# Altium schematic symbol library Semiconductors.SchLib: 50 symbols
Pins are listed as number, name and electrical type; pins without a type are passive.

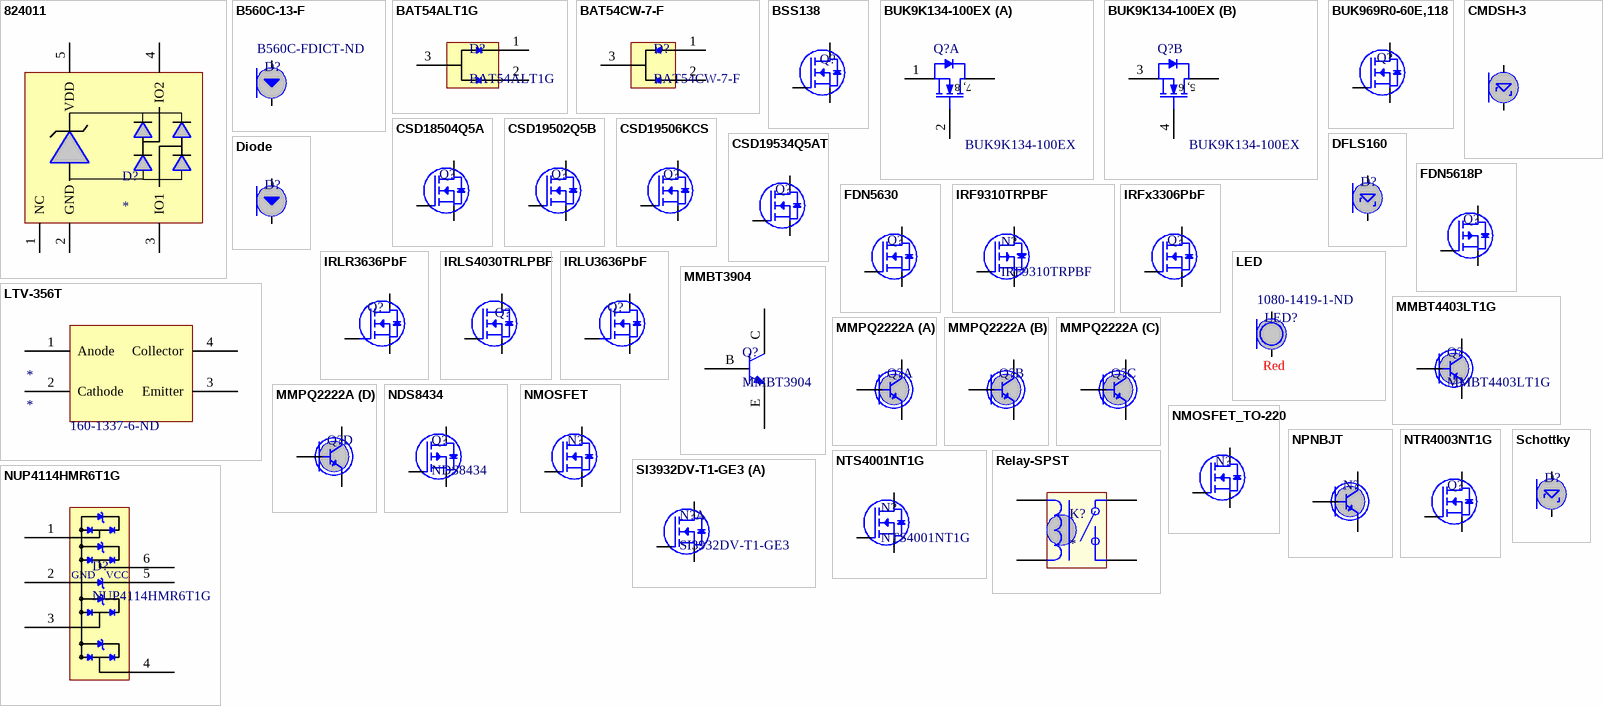
[diagram p0: symbols 824011 to SI3932DV-T1-GE3]

## 824011
designator D?
USB ESD Protection Diodes
footprint SOT95P280X116-5N (SOT23, 5-Leads, Body 2.90x2.80mm, Pitch 0.95mm, IPC Medium Density)
pins: 1 NC, 2 GND, 3 IO1, 4 IO2, 5 VDD

## B560C-13-F
designator D?  Supplier Part Number 1: B560C-FDICT-ND  (hidden comment: B560C-13-F)
DIODE SCHOTTKY 60V 5A SMC; Manufacturer 1: Diodes Incorporated; Supplier 1: Digi-Key; Manufacturer Part Number 1: B560C-13-F
footprint DO-214AB (Molded Diode, 2-Leads, Body 6.85x5.90mm, IPC Medium Density)
pins: A, C

## BAT54ALT1G
designator D?
DIODE ARRAY SCHOTTKY 30V SOT23-3; Manufacturer 1: ON Semiconductor; Manufacturer Part Number 1: BAT54ALT1G; Supplier 1: Digi-Key; Supplier Part Number 1: BAT54ALT1GOSCT-ND
footprint SOT-323 (SOT23, 3-Leads, Body 2.00x2.20mm, Pitch 0.65mm, IPC Medium Density)
pins: 1, 2, 3

## BAT54CW-7-F
designator D?
DIODE ARRAY SCHOTTKY 30V SOT323; Manufacturer 1: Diodes Incorporated; Manufacturer Part Number 1: BAT54CW-7-F; Supplier 1: Digi-Key; Supplier Part Number 1: BAT54CW-FDICT-ND
footprint SOT-323 (SOT23, 3-Leads, Body 2.00x2.20mm, Pitch 0.65mm, IPC Medium Density)
pins: 1, 2, 3

## BSS138
designator Q?  (value not drawn)
MOSFET N-CH 50V 220MA SOT-23; Supplier 1: Digi-Key; Supplier Part Number 1: BSS138CT-ND
footprint BSS138 (MOSFET N-CH 50V 220MA SOT-23)
pins: D, G, S

## BUK9K134-100EX
designator Q?
MOSFET DUAL N-CH 100V 8.5A SOT1205; Supplier 1: Digi-Key; Supplier Part Number 1: 568-11631-1-ND
footprint NXP_SOT1205 (TSOP, 8-Leads, Body 5.13x4.58mm, Pitch 1.27mm, Thermal Pad 2.00x2.00mm, IPC Medium Density)
part A pins: 1 S, 2 G, 7 D, 8 D
part B pins: 3 S, 4 G, 5 D, 6 D
part A text: 7, 8
part B text: 5, 6

## BUK969R0-60E,118
designator Q?  (value not drawn)
MOSFET N-CH 60V 75A D2PAK; Supplier 1: Digi-Key; Supplier Part Number 1: 568-9894-1-ND
pins: D, G, S

## CMDSH-3
designator D?, comment Schottky
DIODE SCHOTTKY 30V 100MA SOD323; Supplier 1: Digi-Key; Supplier Part Number 1: CMDSH-3 CT-ND
footprint SOD-323F (Molded Diode, 2-Leads, Body 1.70x1.25mm, IPC Medium Density)
pins: A, C

## CSD18504Q5A
designator Q?  (value not drawn)
MOSFET N-CH 40V 8SON; Manufacturer 1: Texas Instruments; Supplier 1: Digi-Key; Supplier Part Number 1: 296-30572-1-ND; Manufacturer Part Number 1: CSD18504Q5A
footprint CSD19502Q5B (PSON, 8-Leads, Body 5.00x6.00mm, Pitch 1.27mm, Thermal Pad 4.22x3.58mm, IPC Medium Density)
pins: D, G, S

## CSD19502Q5B
designator Q?  (value not drawn)
NEXFET Power MOSFET; Supplier 1: Digi-Key; Supplier Part Number 1: 296-37194-1-ND
footprint CSD19502Q5B (PSON, 8-Leads, Body 5.00x6.00mm, Pitch 1.27mm, Thermal Pad 4.22x3.58mm, IPC Medium Density)
pins: D, G, S

## CSD19506KCS
designator Q?  (value not drawn)
HEXFET Power MOSFET; Supplier 1: Digi-Key; Supplier Part Number 1: 296-37169-5-ND
footprint TO-220AB Heatsink (HEXFET Power MOSFET w/ Heat Sink)
footprint TO-220AB Heatsink Vertical
footprint TO-220AB Upside Down (High current FET installed like Devin's motor controllers)
footprint TO-220AB no heat sink (Vertically mounted FET without heatsink)
pins: D, G, S

## CSD19534Q5AT
designator Q?  (value not drawn)
MOSFET N-CH 100V 50 8SON; Manufacturer 1: Texas Instruments; Supplier 1: Digi-Key; Supplier Part Number 1: 296-37838-1-ND; Manufacturer Part Number 1: CSD19534Q5AT
footprint CSD19502Q5B (PSON, 8-Leads, Body 5.00x6.00mm, Pitch 1.27mm, Thermal Pad 4.22x3.58mm, IPC Medium Density)
pins: D, G, S

## DFLS160
designator D?  (value not drawn)
1.0A Surface Mount Schottky Barrier Rectifier; Supplier 1: Digi-Key; Supplier Part Number 1: DFLS160DICT-ND
footprint POWERDI123 (Diodes INC Power Diode)
footprint RSX501L-20TE25 (DIODE SCHOTTKY 20V 5A PMDS)
pins: A, C

## Diode
designator D?  (value not drawn)
Standard Diode Template
footprint TEMD5510FX01 (PHOTODIODE PIN HI SPEED MINI SMD)
footprint SOD-323F (Molded Diode, 2-Leads, Body 1.70x1.25mm, IPC Medium Density)
footprint MBRS360SMB
pins: A, C

## FDN5618P
designator Q?  (value not drawn)
60V P-Channel Logic Level PowerTrench MOSFET; Supplier 1: Digi-Key; Supplier Part Number 1: FDN5618PCT-ND
footprint PowerSOT-3 (SOT23, 3-Leads, Body 2.92x2.47mm, Pitch 0.95mm, IPC Medium Density)
pins: D, G, S

## FDN5630
designator Q?  (value not drawn)
60V N-Channel PowerTrench MOSFET; Supplier 1: Digi-Key; Supplier Part Number 1: FDN5630CT-ND
footprint PowerSOT-3 (SOT23, 3-Leads, Body 2.92x2.47mm, Pitch 0.95mm, IPC Medium Density)
pins: D, G, S

## IRF9310TRPBF
designator N?
MOSFET P-CH 30V 20A 8-SOIC; Manufacturer 1: Infineon Technologies; Supplier 1: Digi-Key; Supplier Part Number 1: IRF9310TRPBFCT-ND; Manufacturer Part Number 1: IRF9310TRPBF
footprint SOIC-8-NO-EP (SOIC, 8-Leads, Body 4.90x3.90mm, Pitch 1.27mm, IPC Medium Density)
pins: 1,2,3 S, 4 G, 5,6,7,8 D

## IRFx3306PbF
designator Q?, comment IRFB3306PbF  (value not drawn)
HEXFET Power MOSFET; Heatsink: A10755-ND; Supplier 1: Digi-Key; Supplier Part Number 1: IRFB3306PBF-ND
footprint TO-220AB Heatsink (HEXFET Power MOSFET w/ Heat Sink)
footprint TO-220AB Heatsink Vertical
footprint TO-220AB Upside Down (High current FET installed like Devin's motor controllers)
footprint TO-220AB no heat sink (Vertically mounted FET without heatsink)
pins: D, G, S

## IRLR3636PbF
designator Q?  (value not drawn)
HEXFET Power MOSFET; Supplier 1: Digi-Key; Supplier Part Number 1: IRLR3636TRPBFCT-ND
footprint IRLR3636PbF (D-PAK, 3-Pads, Body 6.2x6.7mm (max), IPC Medium Density)
pins: D, G, S

## IRLS4030TRLPBF
designator Q?  (value not drawn)
MOSFET N-CH 100V 180A D2PAK; Supplier 1: Digi-Key; Supplier Part Number 1: IRLS4030TRLPBFCT-ND
footprint IRLS4030TRLPBF (MOSFET N-CH 100V 180A D2PAK)
footprint Si7308DN (MOSFET, Fast Switching, NChan, 60V, 6A, 59millohm)
pins: D, G, S

## IRLU3636PbF
designator Q?  (value not drawn)
HEXFET Power MOSFET; Supplier 1: Digi-Key; Supplier Part Number 1: IRLU3636PBF-ND
footprint IRLU3636PbF
pins: D, G, S

## LED
designator LED?  Color: Red  Supplier Part Number 1: 1080-1419-1-ND  (hidden comment: *)
Supplier 1: Digi-Key
footprint LED0603 (Chip LED, 2-Leads, Body 1.60x0.80mm, IPC Medium Density)
footprint LED1206
footprint LED0805 (Chip LED, 2-Leads, Body 2.00x1.25mm, IPC Medium Density)
pins: A, C

## LTV-356T
designator *  Supplier Part Number 1: 160-1337-6-ND
OPTOISOLATOR 3.75KV TRANS 4-SOP; Supplier 1: Digi-Key
footprint LTV-356T (OPTOISOLATOR 3.75KV TRANS 4-SOP)
pins: 1 Anode, 2 Cathode, 3 Emitter, 4 Collector

## MMBT3904
designator Q?
TRANS NPN 40V 0.2A SOT-23; Manufacturer 1: Fairchild Semiconductor; Supplier 1: Digi-Key; Supplier Part Number 1: MMBT3904FSCT-ND; Manufacturer Part Number 1: MMBT3904
footprint MMBT3904 (SOT23, 3-Leads, Body 2.92x2.40mm, Pitch 0.95mm, IPC Medium Density)
pins: B, C, E

## MMBT4403LT1G
designator Q?
TRANS PNP 40V 0.6A SOT23; Manufacturer 1: ON Semiconductor; Manufacturer Part Number 1: MMBT4403LT1G; Supplier 1: Digi-Key; Supplier Part Number 1: MMBT4403LT1GOSCT-ND
footprint BZX84C24LT1G (SOT23, 3-Leads, Body 2.92x2.37mm, Pitch 0.95mm, IPC Medium Density)
pins: A B, B E, C

## MMPQ2222A
designator Q?  (value not drawn)
Quad NPN General Purpose Amplifier; Supplier 1: Digi-Key; Supplier Part Number 1: MMPQ2222ACT-ND
footprint MMPQ2222A (SOIC, 16-Leads, Body 9.90x3.90mm, Pitch 1.27mm, IPC Medium Density)
part A pins: 1 C1, 15 B1, 16 E1
part B pins: 3 C2, 13 B2, 14 E2
part C pins: 5 C3, 11 B3, 12 E3
part D pins: 7 C4, 9 B4, 10 E4

## NDS8434
designator Q?
MOSFET P-CH 20V 6.5A 8-SOIC; Manufacturer 1: Fairchild Semiconductor; Manufacturer Part Number 1: NDS8434; Supplier 1: Digi-Key; Supplier Part Number 1: NDS8434CT-ND
footprint NDS8434 (MOSFET P-CH 20V 6.5A 8-SOIC)
pins: D, G, S

## NMOSFET
designator N?  (value not drawn)
NMOSFET Template; Supplier 1: Digi-Key; Supplier Part Number 1: 568-5818-1-ND
footprint SSM3K329R,LF (MOSFET N CH 30V 3.5A 2-3Z1A)
pins: 1 G, 2 S, 3 D

## NMOSFET_TO-220
designator N?  (value not drawn)
NMOSFET_TO-220-Template; Supplier 1: Digi-Key; Supplier Part Number 1: IRLB3813PBF-ND
footprint TO-220AB no heat sink (Vertically mounted FET without heatsink)
footprint TO-220AB Heatsink (HEXFET Power MOSFET w/ Heat Sink)
footprint TO-220AB Heatsink Vertical (Vertical Heatsink for better heat management)
footprint TO-220AB Upside Down (High current FET installed like Devin's motor controllers)
pins: D, G, S

## NPNBJT
designator N?  (value not drawn)
NPN Transistor Template; Supplier 1: Digi-Key; Supplier Part Number 1: 568-4866-1-ND
footprint BC846A,215 (TRANSISTOR NPN 100MA 65V SOT23)
footprint PZT3904 (SOT223, 4-Leads, Body 6.45x7.00mm (avg), Pitch 2.30mm, IPC Medium Density)
pins: B, C, E

## NTR4003NT1G
designator Q?  (value not drawn)
MOSFET N-CH 30V 500MA SOT-23; Manufacturer 1: ON Semiconductor; Supplier 1: Digi-Key; Supplier Part Number 1: NTR4003NT1GOSCT-ND; Manufacturer Part Number 1: NTR4003NT1G
footprint BZX84C24LT1G (SOT23, 3-Leads, Body 2.92x2.37mm, Pitch 0.95mm, IPC Medium Density)
pins: A G, B S, C D

## NTS4001NT1G
designator N?
MOSFET N-CH 30V 270MA SOT-323; Manufacturer 1: ON Semiconductor; Manufacturer Part Number 1: NTS4001NT1G; Supplier 1: Digi-Key; Supplier Part Number 1: NTS4001NT1GOSCT-ND
footprint SOT-323 (SOT23, 3-Leads, Body 2.00x2.20mm, Pitch 0.65mm, IPC Medium Density)
pins: 1 G, 2 S, 3 D

## NUP4114HMR6T1G
designator D?
TVS DIODE 5.5VWM 10VC 6TSOP; Manufacturer 1: ON Semiconductor; Manufacturer Part Number 1: NUP4114HMR6T1G; Supplier 1: Digi-Key; Supplier Part Number 1: NUP4114HMR6T1GOSCT-ND
footprint TSOP-6 (SOT23, 6-Leads, Body 3.00x2.75mm, Pitch 0.95mm, IPC Medium Density)
pins: 1 IN1, 2 GND, 3 IN3, 4 IN4, 5 VCC, 6 IN2

## Relay-SPST
designator K?
General Purpose Relay SPST-NO (1 Form A) 24VDC Coil Through Hole; Supplier Part Number 1: Z2254-ND; Supplier 1: Digi-Key
footprint G5LE-1A4 DC24 (RELAY GEN PURPOSE SPST 10A 24V)
pins: 1, 2, 3, 5

## Schottky
designator D?  (value not drawn)
Schottky Diode Template
footprint 1N5819HW-7-F (DIODE SCHOTTKY 40V 1A SOD123)
footprint SS110-TP (DIODE SCHOTTKY 100V 1A SMA)
pins: A, C

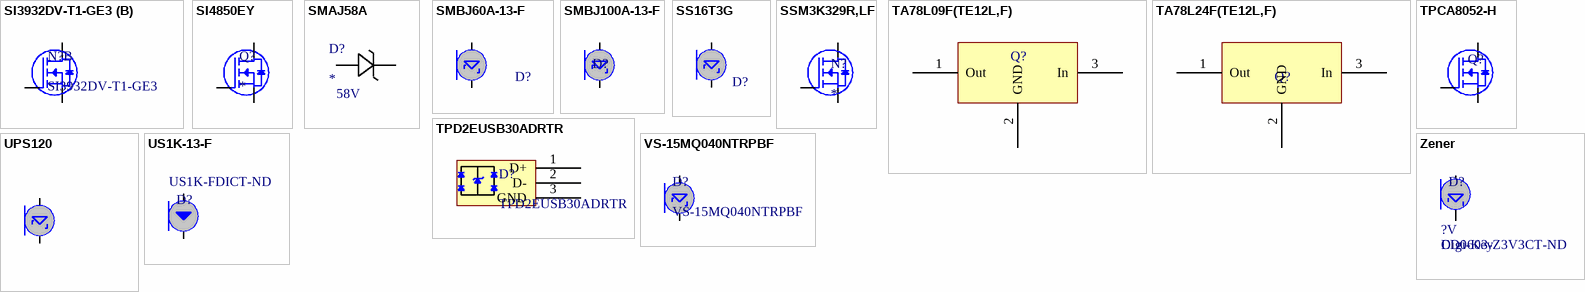
[diagram p1: symbols SI3932DV-T1-GE3 to Zener]

## SI3932DV-T1-GE3
designator N?
MOSFET 2N-CH 30V 3.7A 6-TSOP; Manufacturer 1: Vishay Siliconix; Manufacturer Part Number 1: SI3932DV-T1-GE3; Supplier 1: Digi-Key; Supplier Part Number 1: SI3932DV-T1-GE3CT-ND
footprint SOT23-6 (SOT23, 6-Leads, Body 3.03x2.84mm, Pitch 0.95mm, IPC Medium Density)
part A pins: 1 G, 5 S, 6 D
part B pins: 2 S, 3 G, 4 D

## SI4850EY
designator Q?
MOSFET N-CH 60V 6A 8-SOIC; Supplier 1: Digi-Key; Supplier Part Number 1: SI4850EY-T1-E3CT-ND
footprint SOIC-8-NO-EP (SOIC, 8-Leads, Body 4.90x3.90mm, Pitch 1.27mm, IPC Medium Density)
pins: 1 S, 2 S, 3 S, 4 G, 5 D, 6 D, 7 D, 8 D

## SMAJ58A
designator D?  Zener Voltage: 58V
TVS DIODE 58VWM 93.6VC SMA; Supplier 1: Digi-Key; Supplier Part Number 1: SMAJ58ALFCT-ND
footprint SMASeries
pins: A 2, C 1

## SMBJ60A-13-F
designator D?  (value not drawn)
TVS UNIDIRECT 600W 60V SMB; Supplier 1: Digi-Key; Supplier Part Number 1: SMBJ60A-FDIDKR-ND
footprint SMBJ60A-13-F (TVS UNIDIRECT 600W 60V SMB)
pins: A, C

## SMBJ100A-13-F
designator D?  (value not drawn)
TVS DIODE 100VWM 162VC SMB; Supplier 1: Digi-Key; Supplier Part Number 1: SMBJ100A-FDIDKR-ND
footprint SMBJ100A-13-F (TVS DIODE 100VWM 162VC SMB)
pins: A, C

## SS16T3G
designator D?  (value not drawn)
DIODE SCHOTTKY 60V 1A SMA; Supplier 1: Digi-Key; Supplier Part Number 1: SS16T3GOSDKR-ND
footprint SS16T3G (DIODE SCHOTTKY 60V 1A SMA)
footprint SS110-TP (DIODE SCHOTTKY 100V 1A SMA)
pins: A, C

## SSM3K329R,LF
designator N?
MOSFET N CH 30V 3.5A 2-3Z1A; Manufacturer 1: Toshiba Semiconductor and Storage; Manufacturer Part Number 1: SSM3K329R,LF; Supplier 1: Digi-Key; Supplier Part Number 1: SSM3K329RLFTR-ND
footprint SSM3K329R,LF (MOSFET N CH 30V 3.5A 2-3Z1A)
pins: 1 G, 2 S, 3 D

## TA78L09F(TE12L,F)
designator Q?  (value not drawn)
IC REG LDO 9V 0.15A PWMINI; Supplier 1: Digi-Key; Supplier Part Number 1: TA78L09F(TE12LF)DKR-ND
footprint TA78L09F(TE12L,F) (IC REG LDO 9V 0.15A PWMINI)
pins: 1 Out, 2 GND, 3 In

## TA78L24F(TE12L,F)
designator Q?, comment *TA78L24F(TE12L,F)  (value not drawn)
IC REG LDO 24V 0.15A PWMINI; Supplier 1: Digi-Key; Supplier Part Number 1: TA78L24F(TE12LF)DKR-ND
footprint TA78L09F(TE12L,F) (IC REG LDO 9V 0.15A PWMINI)
pins: 1 Out, 2 GND, 3 In

## TPCA8052-H
designator Q?, comment TPCA8052-H(TE12LQM  (value not drawn)
MOSFET N-CH 40V 20A 8SOP; Supplier 1: Digi-Key; Supplier Part Number 1: TPCA8052-H(TE12LQMDKR-ND
footprint TPCA8052-H(TE12LQM (MOSFET N-CH 40V 20A 8SOP)
pins: D, G, S

## TPD2EUSB30ADRTR
designator D?
TVS DIODE 3.6VWM 8VC SOT3; Manufacturer 1: Texas Instruments; Manufacturer Part Number 1: TPD2EUSB30ADRTR; Supplier 1: Digi-Key; Supplier Part Number 1: 296-28153-1-ND
footprint TPD2EUSB30ADRTR (TVS DIODE 3.6VWM 8VC SOT3)
pins: 1 D+, 2 D-, 3 GND

## UPS120
designator D?
DIODE SCHOTTKY 20V 1A POWERMITE1; Supplier 1: Digi-Key; Supplier Part Number 1: UPS120E3CT-ND
footprint DO-216AA (UPS120)
pins: A, C

## US1K-13-F
designator D?  Supplier Part Number 1: US1K-FDICT-ND  (hidden comment: *)
1.0A SURFACE MOUNT ULTRA-FAST RECTIFIER; Supplier 1: Digi-Key
footprint US1K-13-F (Molded Diode, 2-Leads, Body 4.3x2.6mm, IPC Medium Density)
pins: A, C

## VS-15MQ040NTRPBF
designator D?
DIODE SCHOTTKY 40V 1.5A SMA; Manufacturer 1: Vishay Semiconductor Diodes Division; Supplier 1: Digi-Key; Supplier Part Number 1: 15MQ040NPBFCT-ND; Manufacturer Part Number 1: VS-15MQ040NTRPBF
footprint SS110-TP (DIODE SCHOTTKY 100V 1A SMA)
pins: A, C

## Zener
designator D?  Zener Voltage: ?V  Supplier 1: Digi-Key  Supplier Part Number 1: CD0603-Z3V3CT-ND  (hidden comment: *)
Zener Diode
footprint LED0603 (Chip LED, 2-Leads, Body 1.60x0.80mm, IPC Medium Density)
footprint BZX84C24LT1G (SOT23, 3-Leads, Body 2.92x2.37mm, Pitch 0.95mm, IPC Medium Density)
footprint SMASeries
pins: A, C